# EAGLE library part SN65220DBV (library NewSDR)
USB Port Transient Suppressor
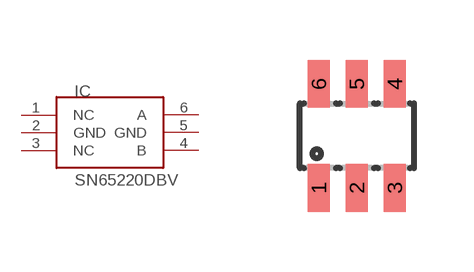
[diagram p14: symbol with the pads of SOT23-6L; footprint SOT23-6L]

Designator prefix IC

## SN65220DBV  [SOT23-6L]
1  NC  nc
2  GND  pwr
3  NC  nc
4  B  pas
5  GND  pwr
6  A  pas

## Footprint SOT23-6L (pad centres in mm)
Small Outline Transistor
smd 0.55 x 1.2: 1 -0.95,-1.3; 2 0,-1.3; 3 0.95,-1.3; 4 0.95,1.3; 5 0,1.3; 6 -0.95,1.3